# Altium footprint library RESC3216X74N.PcbLib: 1 footprints
Each footprint in its own frame and in the unit in brackets; x right, y up, seen from the top. Pads: shape width x height; smd on the part's side, far side on the other; paste and mask are expansions set on the pad; w line width, h text height; cw(c..) or ccw(c..) is an arc to the next point about the centre after c.
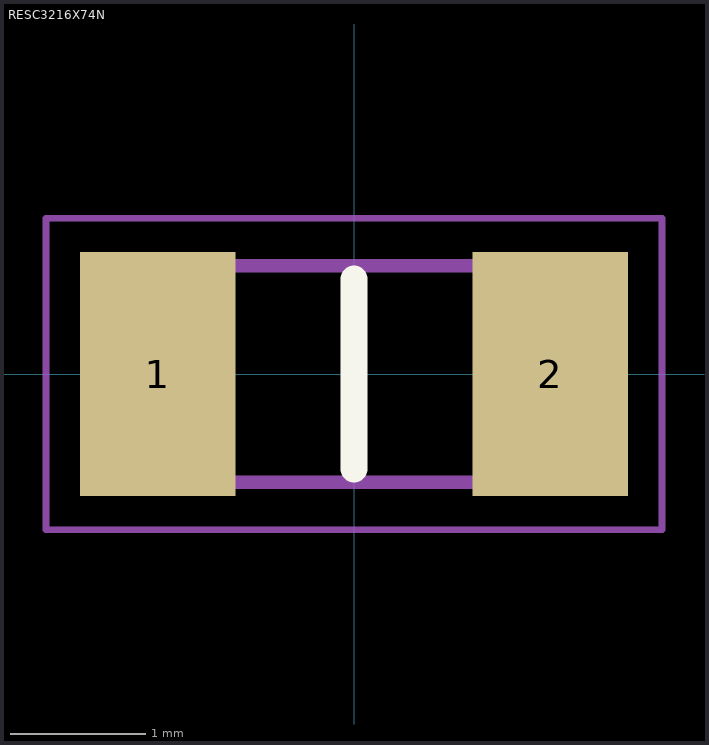
[diagram p0: the footprint, top view; thin cyan lines are the x and y axes]

## RESC3216X74N [mm]
pads (2):
  rect 1.15x1.8 smd: 1(-1.45,0) 2(1.45,0)
Top Overlay:
  lines w0.2: 0,-0.7 0,0.7
Mechanical 15:
  lines w0.1: -1.59,-0.8 1.59,-0.8 1.59,0.8 -1.59,0.8 -1.59,-0.8
Mechanical 20:
  lines w0.05: -2.275,-1.15 2.275,-1.15 2.275,1.15 -2.275,1.15 -2.275,-1.15
3D body "CRMA1206AF6M00DKEF.stp": height 5.8, standoff -4.65, extent -10,-3.376 10,3.376